# EAGLE library part SC4215ISTRT (library LDO)
IC REG LINEAR POS ADJ 2A 8SOIC Manufacturer's datasheet <https://semtech.my.salesforce.com/sfc/p/#E0000000JelG/a/440000001M6o/CToRC0xwyOv8urapwQPIZ8OxoIcEJYlVZp9dKcmPJKs>
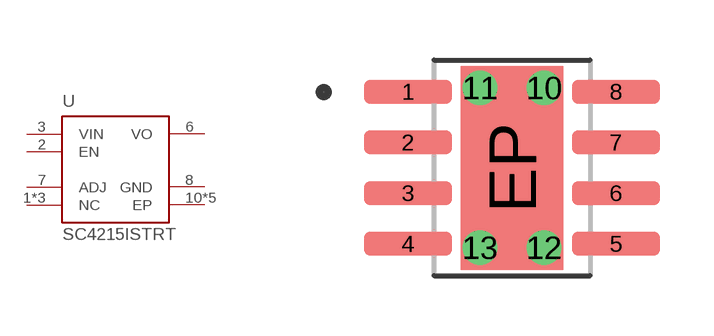
[diagram p2: symbol with the pads of 8-SOIC-EP; footprint 8-SOIC-EP]

Designator prefix U

## SC4215ISTRT (CREATED_BY: PCBLayout.com; DIGIKEY_PARTNO: SC4215ISTRTCT-ND; MANUFACTURER: Semtech Corporation; MPN: SC4215ISTRT; PACKAGE: 8-SOIC-EP)  [8-SOIC-EP]
1  NC  pas
2  EN  in
3  VIN  in
4  NC  pas
5  NC  pas
6  VO  out
7  ADJ  pas
8  GND  pwr
10  EP  pwr
11  EP  pwr
12  EP  pwr
13  EP  pwr
EP  EP  pwr

## Footprint 8-SOIC-EP (pad centres in mm)
Small Outline IC (SOIC with Tab), 1.27 mm pitch; 8 pin, 4.90 mm L X 3.90 mm W X 1.75 mm H body PCB Libraries Packages
smd 2.2 x 0.6: 1 -2.6,1.905; 2 -2.6,0.635; 3 -2.6,-0.635; 4 -2.6,-1.905; 5 2.6,-1.905; 6 2.6,-0.635; 7 2.6,0.635; 8 2.6,1.905
drill 0.36 pad 0.72: 10 0.8,2; 11 -0.8,2; 12 0.8,-2; 13 -0.8,-2
smd 2.56 x 5.1: EP 0,0